# EAGLE library part DRV8303 (library r2p_ic)
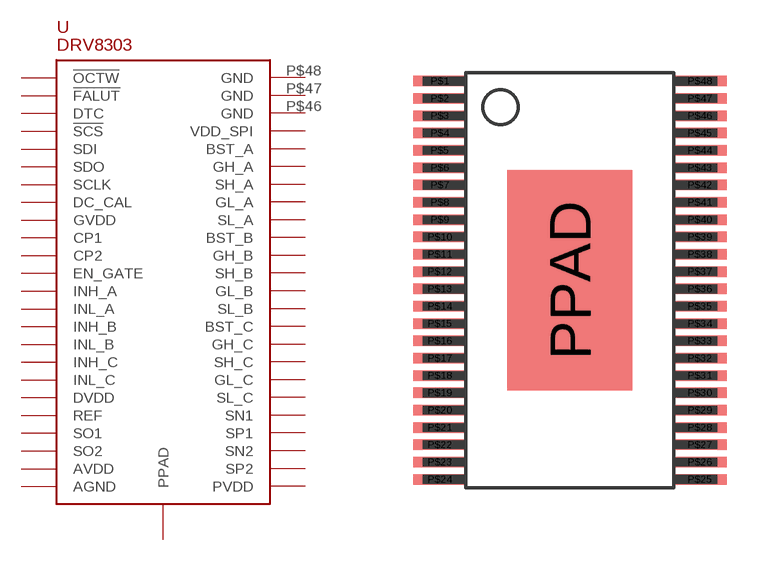
[diagram p6: symbol with the pads of HTSSOP48; footprint HTSSOP48]

Designator prefix U

## DRV8303  [HTSSOP48]
P$1  !OCTW
P$2  !FALUT
P$3  DTC
P$4  !SCS
P$5  SDI
P$6  SDO
P$7  SCLK
P$8  DC_CAL
P$9  GVDD
P$10  CP1
P$11  CP2
P$12  EN_GATE
P$13  INH_A
P$14  INL_A
P$15  INH_B
P$16  INL_B
P$17  INH_C
P$18  INL_C
P$19  DVDD
P$20  REF
P$21  SO1
P$22  SO2
P$23  AVDD
P$24  AGND
P$25  PVDD
P$26  SP2
P$27  SN2
P$28  SP1
P$29  SN1
P$30  SL_C
P$31  GL_C
P$32  SH_C
P$33  GH_C
P$34  BST_C
P$35  SL_B
P$36  GL_B
P$37  SH_B
P$38  GH_B
P$39  BST_B
P$40  SL_A
P$41  GL_A
P$42  SH_A
P$43  GH_A
P$44  BST_A
P$45  VDD_SPI
P$46  GND
P$47  GND
P$48  GND
PPAD  PPAD

## Footprint HTSSOP48 (pad centres in mm)
smd 1.55 x 0.3: P$1 -3.75,6; P$2 -3.75,5.5; P$3 -3.75,5; P$4 -3.75,4.5; P$5 -3.75,4; P$6 -3.75,3.5; P$7 -3.75,3; P$8 -3.75,2.5; P$9 -3.75,2; P$10 -3.75,1.5; P$11 -3.75,1; P$12 -3.75,0.5; P$13 -3.75,0; P$14 -3.75,-0.5; P$15 -3.75,-1; P$16 -3.75,-1.5; P$17 -3.75,-2; P$18 -3.75,-2.5; P$19 -3.75,-3; P$20 -3.75,-3.5; P$21 -3.75,-4; P$22 -3.75,-4.5; P$23 -3.75,-5; P$24 -3.75,-5.5; P$25 3.75,-5.5; P$26 3.75,-5; P$27 3.75,-4.5; P$28 3.75,-4; P$29 3.75,-3.5; P$30 3.75,-3; P$31 3.75,-2.5; P$32 3.75,-2; P$33 3.75,-1.5; P$34 3.75,-1; P$35 3.75,-0.5; P$36 3.75,0; P$37 3.75,0.5; P$38 3.75,1; P$39 3.75,1.5; P$40 3.75,2; P$41 3.75,2.5; P$42 3.75,3; P$43 3.75,3.5; P$44 3.75,4; P$45 3.75,4.5; P$46 3.75,5; P$47 3.75,5.5; P$48 3.75,6
smd 3.61 x 6.35: PPAD 0,0.25